# Altium schematic symbol library CON6_SL_END_GRWBMP.SchLib: 1 symbol
Pins are listed as number, name and electrical type; pins without a type are passive.

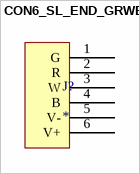
[diagram p0: symbol CON6_SL_END_GRWBMP]

## CON6_SL_END_GRWBMP
designator J?
pins: 1 G, 2 R, 3 W, 4 B, 5 V-, 6 V+